# Altium schematic symbol library resistor-sil.SCHLIB: 57 symbols
Pins are listed as number, name and electrical type; pins without a type are passive.

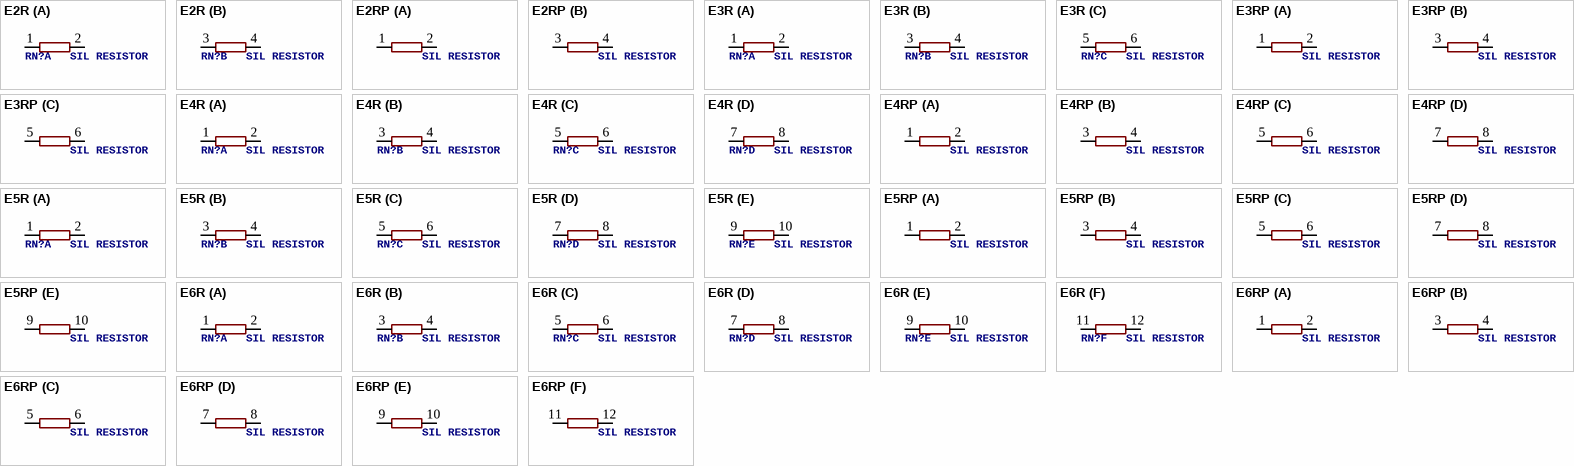
[diagram p0: symbols E2R to E6RP]

## E2R
designator RN?, comment SIL RESISTOR
OC_FARNELL: unknown; OC_NEWARK: unknown
footprint SIL4
part A pins: 1, 2
part B pins: 3 1, 4 2

## E2RP
designator RN?, comment SIL RESISTOR
OC_FARNELL: unknown; OC_NEWARK: unknown
footprint SIL4
part A pins: 1, 2
part B pins: 3 1, 4 2

## E3R
designator RN?, comment SIL RESISTOR
OC_FARNELL: unknown; OC_NEWARK: unknown
footprint SIL6
part A pins: 1, 2
part B pins: 3 1, 4 2
part C pins: 5 1, 6 2

## E3RP
designator RN?, comment SIL RESISTOR
OC_FARNELL: unknown; OC_NEWARK: unknown
footprint SIL6
part A pins: 1, 2
part B pins: 3 1, 4 2
part C pins: 5 1, 6 2

## E4R
designator RN?, comment SIL RESISTOR
OC_FARNELL: unknown; OC_NEWARK: unknown
footprint SIL8
part A pins: 1, 2
part B pins: 3 1, 4 2
part C pins: 5 1, 6 2
part D pins: 7 1, 8 2

## E4RP
designator RN?, comment SIL RESISTOR
OC_FARNELL: unknown; OC_NEWARK: unknown
footprint SIL8
part A pins: 1, 2
part B pins: 3 1, 4 2
part C pins: 5 1, 6 2
part D pins: 7 1, 8 2

## E5R
designator RN?, comment SIL RESISTOR
OC_FARNELL: unknown; OC_NEWARK: unknown
footprint SIL10
part A pins: 1, 2
part B pins: 3 1, 4 2
part C pins: 5 1, 6 2
part D pins: 7 1, 8 2
part E pins: 9 1, 10 2

## E5RP
designator RN?, comment SIL RESISTOR
OC_FARNELL: unknown; OC_NEWARK: unknown
footprint SIL10
part A pins: 1, 2
part B pins: 3 1, 4 2
part C pins: 5 1, 6 2
part D pins: 7 1, 8 2
part E pins: 9 1, 10 2

## E6R
designator RN?, comment SIL RESISTOR
OC_FARNELL: unknown; OC_NEWARK: unknown
footprint SIL12
part A pins: 1, 2
part B pins: 3 1, 4 2
part C pins: 5 1, 6 2
part D pins: 7 1, 8 2
part E pins: 9 1, 10 2
part F pins: 11 1, 12 2

## E6RP
designator RN?, comment SIL RESISTOR
OC_FARNELL: unknown; OC_NEWARK: unknown
footprint SIL12
part A pins: 1, 2
part B pins: 3 1, 4 2
part C pins: 5 1, 6 2
part D pins: 7 1, 8 2
part E pins: 9 1, 10 2
part F pins: 11 1, 12 2

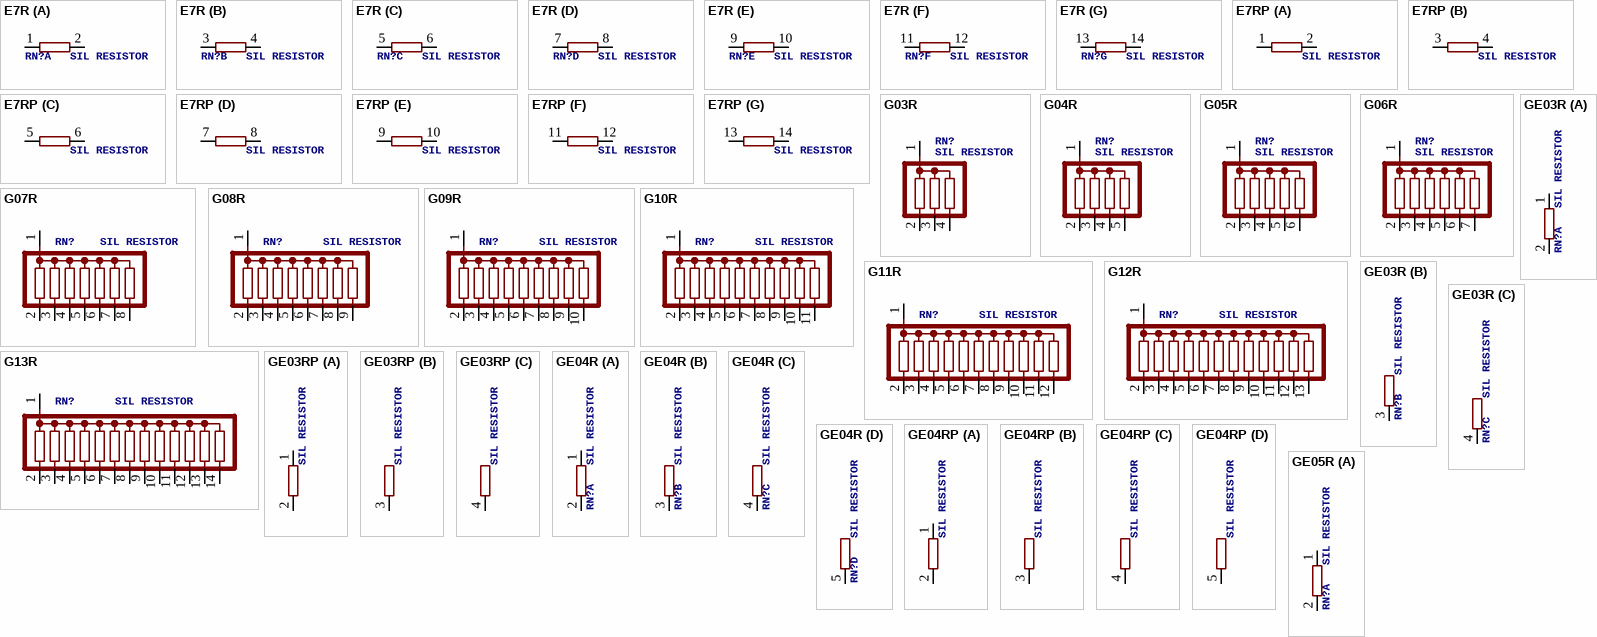
[diagram p1: symbols E7R to GE05R]

## E7R
designator RN?, comment SIL RESISTOR
OC_FARNELL: unknown; OC_NEWARK: unknown
footprint SIL14
part A pins: 1, 2
part B pins: 3 1, 4 2
part C pins: 5 1, 6 2
part D pins: 7 1, 8 2
part E pins: 9 1, 10 2
part F pins: 11 1, 12 2
part G pins: 13 1, 14 2

## E7RP
designator RN?, comment SIL RESISTOR
OC_FARNELL: unknown; OC_NEWARK: unknown
footprint SIL14
part A pins: 1, 2
part B pins: 3 1, 4 2
part C pins: 5 1, 6 2
part D pins: 7 1, 8 2
part E pins: 9 1, 10 2
part F pins: 11 1, 12 2
part G pins: 13 1, 14 2

## G03R
designator RN?, comment SIL RESISTOR
OC_FARNELL: unknown; OC_NEWARK: unknown
footprint SIL4
pins: 1, 2, 3, 4

## G04R
designator RN?, comment SIL RESISTOR
OC_FARNELL: unknown; OC_NEWARK: unknown
footprint SIL5
pins: 1, 2, 3, 4, 5

## G05R
designator RN?, comment SIL RESISTOR
OC_FARNELL: unknown; OC_NEWARK: unknown
footprint SIL6
pins: 1, 2, 3, 4, 5, 6

## G06R
designator RN?, comment SIL RESISTOR
OC_FARNELL: unknown; OC_NEWARK: unknown
footprint SIL7
pins: 1, 2, 3, 4, 5, 6, 7

## G07R
designator RN?, comment SIL RESISTOR
OC_FARNELL: unknown; OC_NEWARK: unknown
footprint SIL8
pins: 1, 2, 3, 4, 5, 6, 7, 8

## G08R
designator RN?, comment SIL RESISTOR
OC_FARNELL: unknown; OC_NEWARK: unknown
footprint SIL9
pins: 1, 2, 3, 4, 5, 6, 7, 8, 9

## G09R
designator RN?, comment SIL RESISTOR
OC_FARNELL: unknown; OC_NEWARK: unknown
footprint SIL10
pins: 1, 2, 3, 4, 5, 6, 7, 8, 9, 10

## G10R
designator RN?, comment SIL RESISTOR
OC_FARNELL: unknown; OC_NEWARK: unknown
footprint SIL11
pins: 1, 2, 3, 4, 5, 6, 7, 8, 9, 10, 11

## G11R
designator RN?, comment SIL RESISTOR
OC_FARNELL: unknown; OC_NEWARK: unknown
footprint SIL12
pins: 1, 2, 3, 4, 5, 6, 7, 8, 9, 10, 11, 12

## G12R
designator RN?, comment SIL RESISTOR
OC_FARNELL: unknown; OC_NEWARK: unknown
footprint SIL13
pins: 1, 2, 3, 4, 5, 6, 7, 8, 9, 10, 11, 12, 13

## G13R
designator RN?, comment SIL RESISTOR
OC_FARNELL: unknown; OC_NEWARK: unknown
footprint SIL14
pins: 1, 2, 3, 4, 5, 6, 7, 8, 9, 10, 11, 12, 13, 14

## GE03R
designator RN?, comment SIL RESISTOR
OC_FARNELL: unknown; OC_NEWARK: unknown
footprint SIL4
part A pins: 1, 2
part B pins: 3 2
part C pins: 4 2

## GE03RP
designator RN?, comment SIL RESISTOR
OC_FARNELL: unknown; OC_NEWARK: unknown
footprint SIL4
part A pins: 1, 2
part B pins: 3 2
part C pins: 4 2

## GE04R
designator RN?, comment SIL RESISTOR
OC_FARNELL: unknown; OC_NEWARK: unknown
footprint SIL5
part A pins: 1, 2
part B pins: 3 2
part C pins: 4 2
part D pins: 5 2

## GE04RP
designator RN?, comment SIL RESISTOR
OC_FARNELL: unknown; OC_NEWARK: unknown
footprint SIL5
part A pins: 1, 2
part B pins: 3 2
part C pins: 4 2
part D pins: 5 2

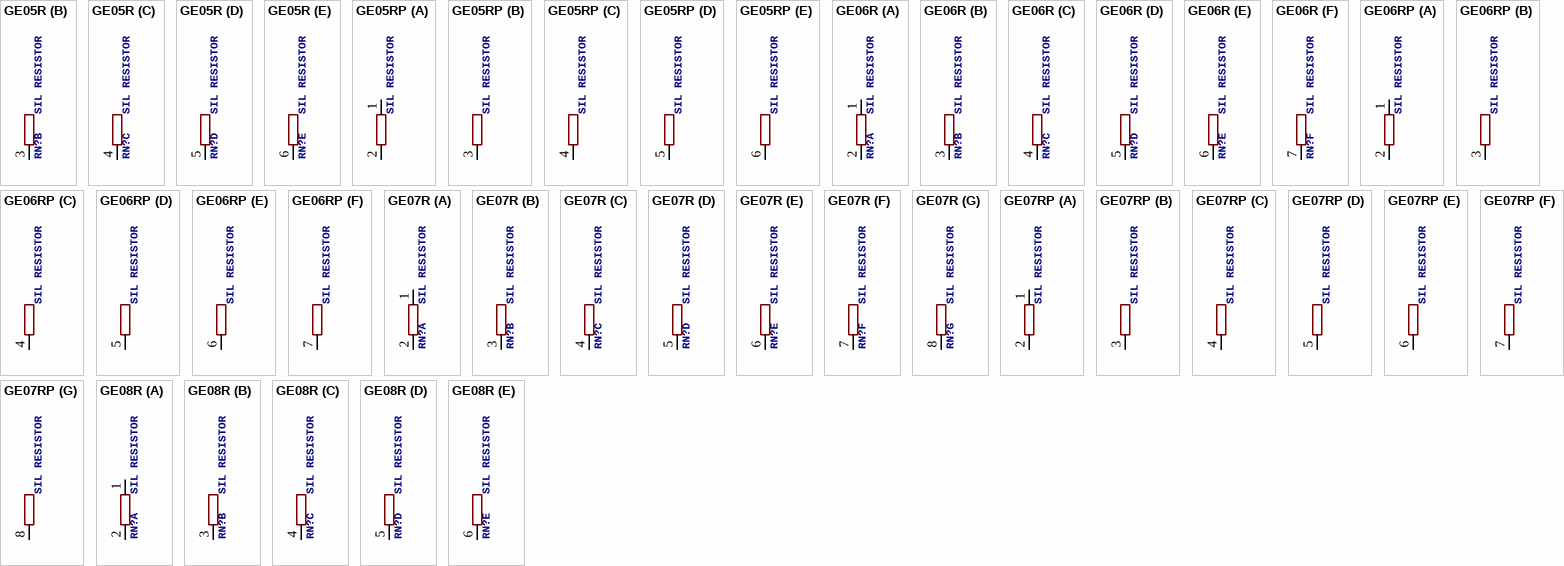
[diagram p2: symbols GE05R to GE08R]

## GE05R
designator RN?, comment SIL RESISTOR
OC_FARNELL: unknown; OC_NEWARK: unknown
footprint SIL6
part A pins: 1, 2
part B pins: 3 2
part C pins: 4 2
part D pins: 5 2
part E pins: 6 2

## GE05RP
designator RN?, comment SIL RESISTOR
OC_FARNELL: unknown; OC_NEWARK: unknown
footprint SIL6
part A pins: 1, 2
part B pins: 3 2
part C pins: 4 2
part D pins: 5 2
part E pins: 6 2

## GE06R
designator RN?, comment SIL RESISTOR
OC_FARNELL: unknown; OC_NEWARK: unknown
footprint SIL7
part A pins: 1, 2
part B pins: 3 2
part C pins: 4 2
part D pins: 5 2
part E pins: 6 2
part F pins: 7 2

## GE06RP
designator RN?, comment SIL RESISTOR
OC_FARNELL: unknown; OC_NEWARK: unknown
footprint SIL7
part A pins: 1, 2
part B pins: 3 2
part C pins: 4 2
part D pins: 5 2
part E pins: 6 2
part F pins: 7 2

## GE07R
designator RN?, comment SIL RESISTOR
OC_FARNELL: unknown; OC_NEWARK: unknown
footprint SIL8
part A pins: 1, 2
part B pins: 3 2
part C pins: 4 2
part D pins: 5 2
part E pins: 6 2
part F pins: 7 2
part G pins: 8 2

## GE07RP
designator RN?, comment SIL RESISTOR
OC_FARNELL: unknown; OC_NEWARK: unknown
footprint SIL8
part A pins: 1, 2
part B pins: 3 2
part C pins: 4 2
part D pins: 5 2
part E pins: 6 2
part F pins: 7 2
part G pins: 8 2

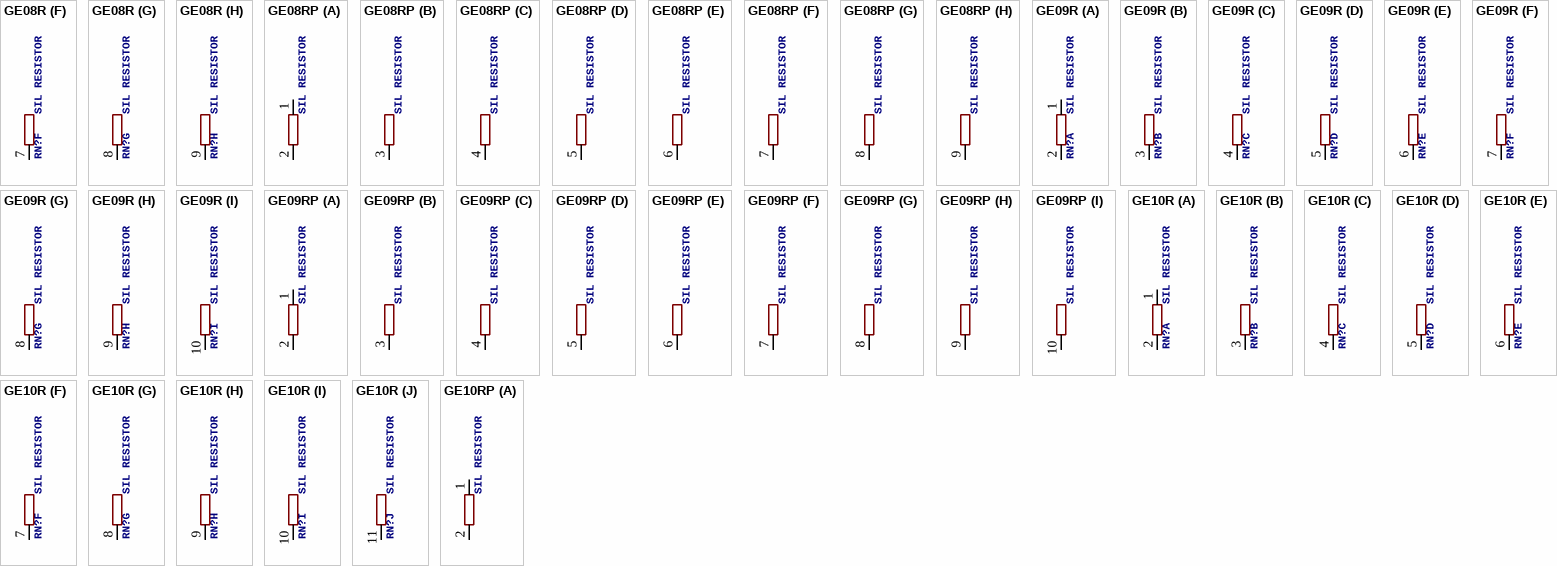
[diagram p3: symbols GE08R to GE10RP]

## GE08R
designator RN?, comment SIL RESISTOR
OC_FARNELL: unknown; OC_NEWARK: unknown
footprint SIL9
part A pins: 1, 2
part B pins: 3 2
part C pins: 4 2
part D pins: 5 2
part E pins: 6 2
part F pins: 7 2
part G pins: 8 2
part H pins: 9 2

## GE08RP
designator RN?, comment SIL RESISTOR
OC_FARNELL: unknown; OC_NEWARK: unknown
footprint SIL9
part A pins: 1, 2
part B pins: 3 2
part C pins: 4 2
part D pins: 5 2
part E pins: 6 2
part F pins: 7 2
part G pins: 8 2
part H pins: 9 2

## GE09R
designator RN?, comment SIL RESISTOR
OC_FARNELL: unknown; OC_NEWARK: unknown
footprint SIL10
part A pins: 1, 2
part B pins: 3 2
part C pins: 4 2
part D pins: 5 2
part E pins: 6 2
part F pins: 7 2
part G pins: 8 2
part H pins: 9 2
part I pins: 10 2

## GE09RP
designator RN?, comment SIL RESISTOR
OC_FARNELL: unknown; OC_NEWARK: unknown
footprint SIL10
part A pins: 1, 2
part B pins: 3 2
part C pins: 4 2
part D pins: 5 2
part E pins: 6 2
part F pins: 7 2
part G pins: 8 2
part H pins: 9 2
part I pins: 10 2

## GE10R
designator RN?, comment SIL RESISTOR
OC_FARNELL: unknown; OC_NEWARK: unknown
footprint SIL11
part A pins: 1, 2
part B pins: 3 2
part C pins: 4 2
part D pins: 5 2
part E pins: 6 2
part F pins: 7 2
part G pins: 8 2
part H pins: 9 2
part I pins: 10 2
part J pins: 11 2

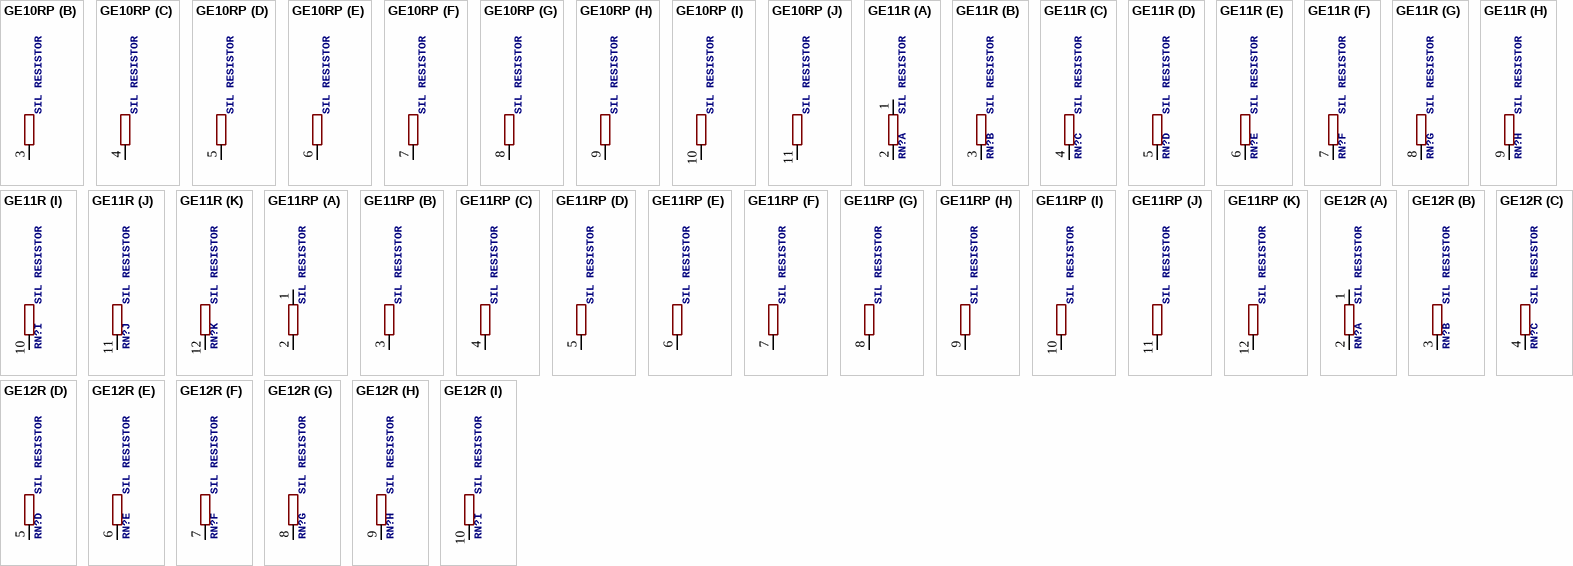
[diagram p4: symbols GE10RP to GE12R]

## GE10RP
designator RN?, comment SIL RESISTOR
OC_FARNELL: unknown; OC_NEWARK: unknown
footprint SIL11
part A pins: 1, 2
part B pins: 3 2
part C pins: 4 2
part D pins: 5 2
part E pins: 6 2
part F pins: 7 2
part G pins: 8 2
part H pins: 9 2
part I pins: 10 2
part J pins: 11 2

## GE11R
designator RN?, comment SIL RESISTOR
OC_FARNELL: unknown; OC_NEWARK: unknown
footprint SIL12
part A pins: 1, 2
part B pins: 3 2
part C pins: 4 2
part D pins: 5 2
part E pins: 6 2
part F pins: 7 2
part G pins: 8 2
part H pins: 9 2
part I pins: 10 2
part J pins: 11 2
part K pins: 12 2

## GE11RP
designator RN?, comment SIL RESISTOR
OC_FARNELL: unknown; OC_NEWARK: unknown
footprint SIL12
part A pins: 1, 2
part B pins: 3 2
part C pins: 4 2
part D pins: 5 2
part E pins: 6 2
part F pins: 7 2
part G pins: 8 2
part H pins: 9 2
part I pins: 10 2
part J pins: 11 2
part K pins: 12 2

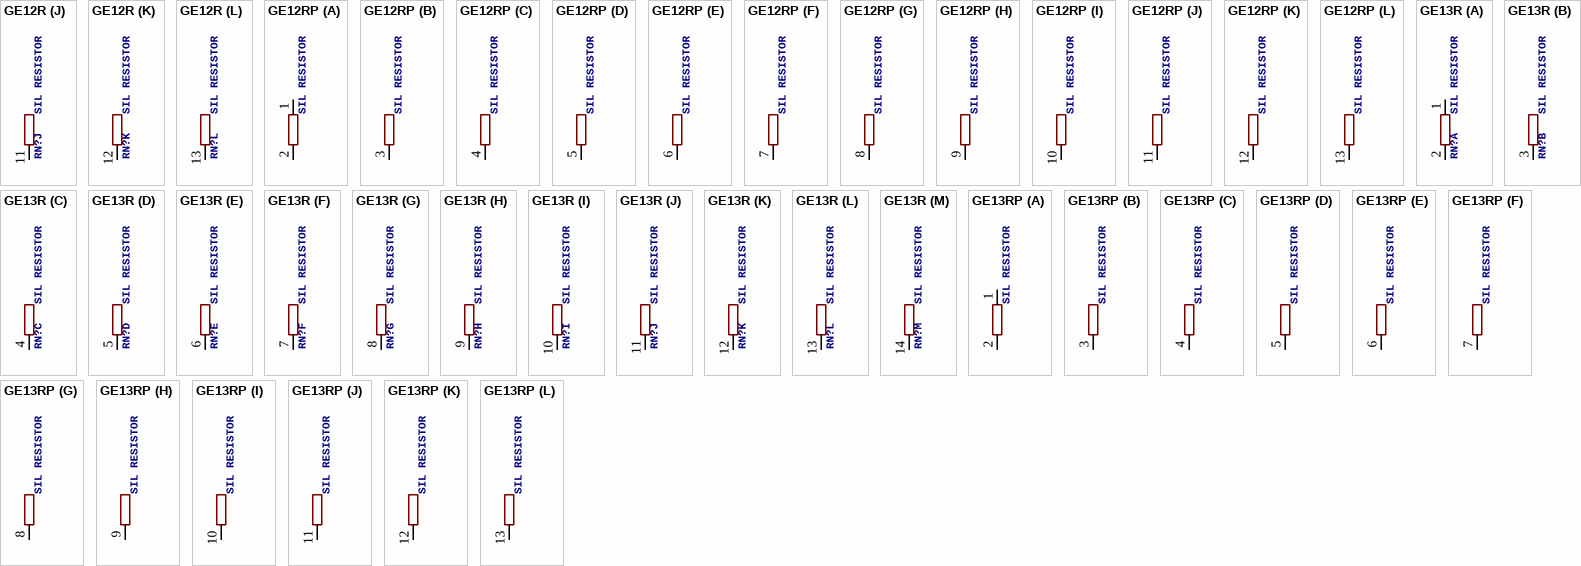
[diagram p5: symbols GE12R to GE13RP]

## GE12R
designator RN?, comment SIL RESISTOR
OC_FARNELL: unknown; OC_NEWARK: unknown
footprint SIL13
part A pins: 1, 2
part B pins: 3 2
part C pins: 4 2
part D pins: 5 2
part E pins: 6 2
part F pins: 7 2
part G pins: 8 2
part H pins: 9 2
part I pins: 10 2
part J pins: 11 2
part K pins: 12 2
part L pins: 13 2

## GE12RP
designator RN?, comment SIL RESISTOR
OC_FARNELL: unknown; OC_NEWARK: unknown
footprint SIL13
part A pins: 1, 2
part B pins: 3 2
part C pins: 4 2
part D pins: 5 2
part E pins: 6 2
part F pins: 7 2
part G pins: 8 2
part H pins: 9 2
part I pins: 10 2
part J pins: 11 2
part K pins: 12 2
part L pins: 13 2

## GE13R
designator RN?, comment SIL RESISTOR
OC_FARNELL: unknown; OC_NEWARK: unknown
footprint SIL14
part A pins: 1, 2
part B pins: 3 2
part C pins: 4 2
part D pins: 5 2
part E pins: 6 2
part F pins: 7 2
part G pins: 8 2
part H pins: 9 2
part I pins: 10 2
part J pins: 11 2
part K pins: 12 2
part L pins: 13 2
part M pins: 14 2

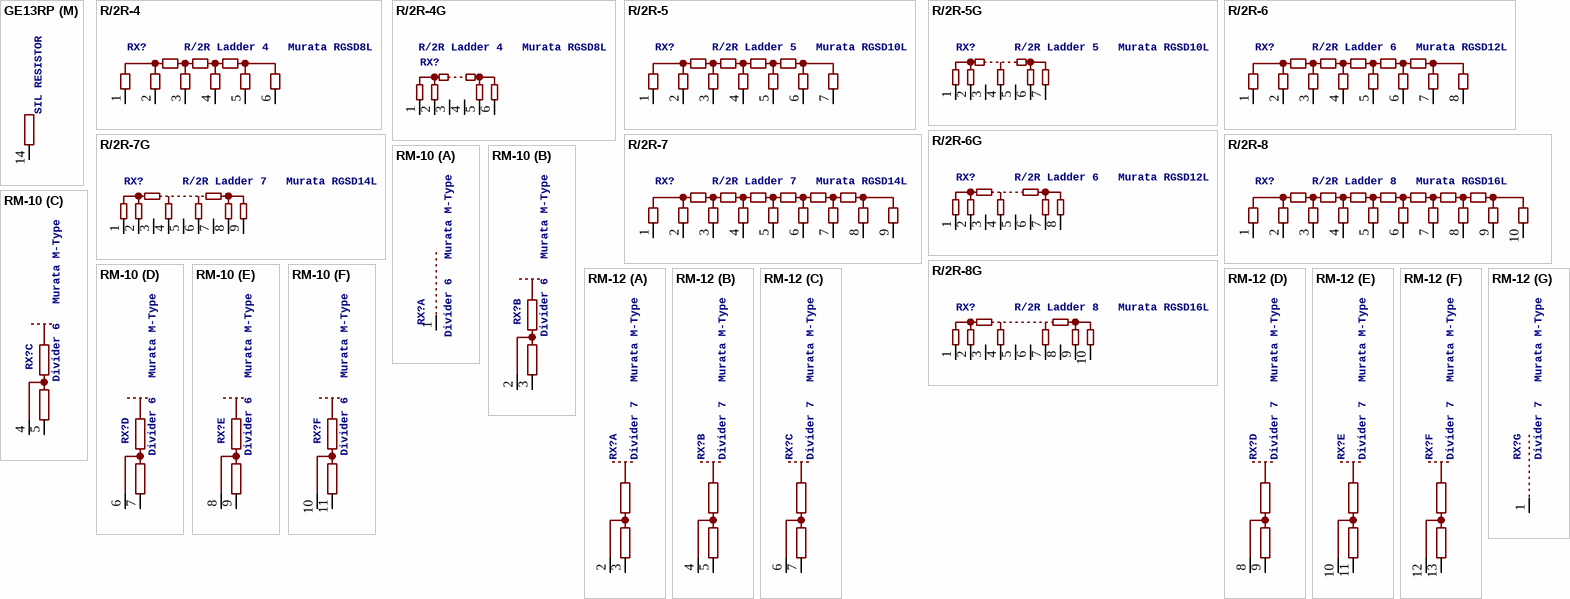
[diagram p6: symbols GE13RP to RM-12]

## GE13RP
designator RN?, comment SIL RESISTOR
OC_FARNELL: unknown; OC_NEWARK: unknown
footprint SIL14
part A pins: 1, 2
part B pins: 3 2
part C pins: 4 2
part D pins: 5 2
part E pins: 6 2
part F pins: 7 2
part G pins: 8 2
part H pins: 9 2
part I pins: 10 2
part J pins: 11 2
part K pins: 12 2
part L pins: 13 2
part M pins: 14 2

## R/2R-4
designator RX?, comment R/2R Ladder 4   Murata RGSD8L
OC_FARNELL: unknown; OC_NEWARK: unknown
footprint SIL6
pins: 1 IN, 2 B4, 3 B3, 4 B2, 5 B1, 6 OUT

## R/2R-4G
designator RX?, comment R/2R Ladder 4   Murata RGSD8L
OC_FARNELL: unknown; OC_NEWARK: unknown
footprint SIL6
pins: 1 IN, 2 B4, 3 B3, 4 B2, 5 B1, 6 OUT

## R/2R-5
designator RX?, comment R/2R Ladder 5   Murata RGSD10L
OC_FARNELL: unknown; OC_NEWARK: unknown
footprint SIL7
pins: 1 IN, 2 B5, 3 B4, 4 B3, 5 B2, 6 B1, 7 OUT

## R/2R-5G
designator RX?, comment R/2R Ladder 5   Murata RGSD10L
OC_FARNELL: unknown; OC_NEWARK: unknown
footprint SIL7
pins: 1 IN, 2 B5, 3 B4, 4 B3, 5 B2, 6 B1, 7 OUT

## R/2R-6
designator RX?, comment R/2R Ladder 6   Murata RGSD12L
OC_FARNELL: unknown; OC_NEWARK: unknown
footprint SIL8
pins: 1 IN, 2 B6, 3 B5, 4 B4, 5 B3, 6 B2, 7 B1, 8 OUT

## R/2R-6G
designator RX?, comment R/2R Ladder 6   Murata RGSD12L
OC_FARNELL: unknown; OC_NEWARK: unknown
footprint SIL8
pins: 1 IN, 2 B6, 3 B5, 4 B4, 5 B3, 6 B2, 7 B1, 8 OUT

## R/2R-7
designator RX?, comment R/2R Ladder 7   Murata RGSD14L
OC_FARNELL: unknown; OC_NEWARK: unknown
footprint SIL9
pins: 1 IN, 2 B7, 3 B6, 4 B5, 5 B4, 6 B3, 7 B2, 8 B1, 9 OUT

## R/2R-7G
designator RX?, comment R/2R Ladder 7   Murata RGSD14L
OC_FARNELL: unknown; OC_NEWARK: unknown
footprint SIL9
pins: 1 IN, 2 B7, 3 B6, 4 B5, 5 B4, 6 B3, 7 B2, 8 B1, 9 OUT

## R/2R-8
designator RX?, comment R/2R Ladder 8   Murata RGSD16L
OC_FARNELL: unknown; OC_NEWARK: unknown
footprint SIL10
pins: 1 IN, 2 B8, 3 B7, 4 B6, 5 B5, 6 B4, 7 B3, 8 B2, 9 B1, 10 OUT

## R/2R-8G
designator RX?, comment R/2R Ladder 8   Murata RGSD16L
OC_FARNELL: unknown; OC_NEWARK: unknown
footprint SIL10
pins: 1 IN, 2 B8, 3 B7, 4 B6, 5 B5, 6 B4, 7 B3, 8 B2, 9 B1, 10 OUT

## RM-10
designator RX?, comment Divider 6   Murata M-Type
OC_FARNELL: unknown; OC_NEWARK: unknown
footprint SIL11
part A pins: 1 2
part B pins: 2 M1, 3 M2
part C pins: 4 M1, 5 M2
part D pins: 6 M1, 7 M2
part E pins: 8 M1, 9 M2
part F pins: 10 M1, 11 M2

## RM-12
designator RX?, comment Divider 7   Murata M-Type
OC_FARNELL: unknown; OC_NEWARK: unknown
footprint SIL13
part A pins: 2 M1, 3 M2
part B pins: 4 M1, 5 M2
part C pins: 6 M1, 7 M2
part D pins: 8 M1, 9 M2
part E pins: 10 M1, 11 M2
part F pins: 12 M1, 13 M2
part G pins: 1 2